# EAGLE library part SHT3X (library SHT31)
SHT3x - Digital Temperature and Humidity Sensor Supply Voltage: 2.4-5.5V Humidity Accuracy: SHT30 = +/-3%RH, SHT31 = +/-2%RH Temperature Sensor: -40~125°C (+/-0.3°C from 10-55C)
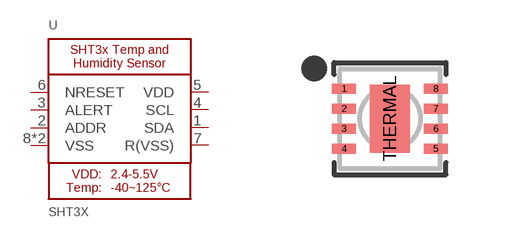
[diagram p1: symbol with the pads of SHT3X; footprint SHT3X]

Designator prefix U

## SHT3X  [SHT3X]
1  SDA
2  ADDR
3  ALERT
4  SCL
5  VDD  pwr
6  NRESET
7  R(VSS)
8  VSS  pwr
THERMAL  VSS  pwr

## Footprint SHT3X (pad centres in mm)
smd 0.6 x 0.25: 1 -1.15,0.75; 2 -1.15,0.25; 3 -1.15,-0.25; 4 -1.15,-0.75; 5 1.15,-0.75; 6 1.15,-0.25; 7 1.15,0.25; 8 1.15,0.75
smd 1 x 1.7: THERMAL 0,0